# EAGLE library part ESP32-WROOM (library BSB-LAN)
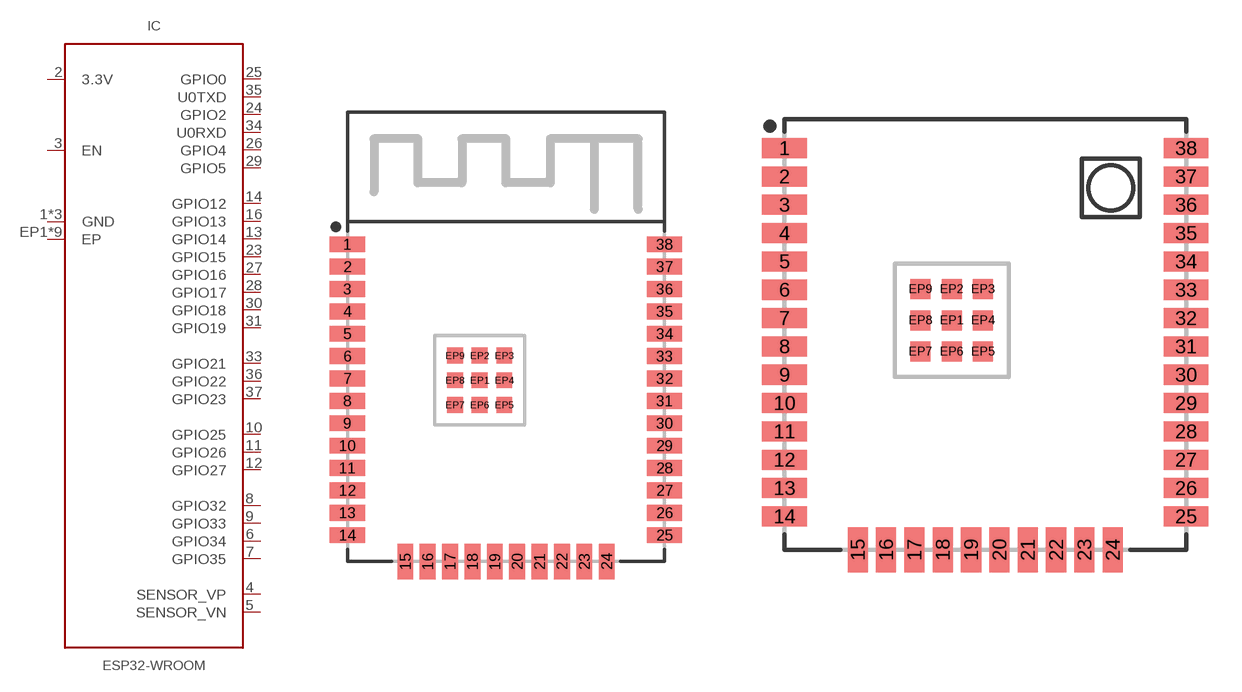
[diagram p1: symbol with the pads of ESP32-WROOM-32E; footprints ESP32-WROOM-32E, ESP32-WROOM-32UE]

Designator prefix IC

## ESP32-WROOM-32E (JLC_ROT: 270; JLC_Y: 7.72; LCSC_PART: C701341)  [ESP32-WROOM-32E]
1  GND  pwr
2  3.3V  pwr
3  EN  in
4  SENSOR_VP
5  SENSOR_VN
6  GPIO34
7  GPIO35
8  GPIO32
9  GPIO33
10  GPIO25
11  GPIO26
12  GPIO27
13  GPIO14
14  GPIO12
15  GND  pwr
16  GPIO13
23  GPIO15
24  GPIO2
25  GPIO0
26  GPIO4
27  GPIO16
28  GPIO17
29  GPIO5
30  GPIO18
31  GPIO19
33  GPIO21
34  U0RXD
35  U0TXD
36  GPIO22
37  GPIO23
38  GND  pwr
EP1  EP  pas
EP2  EP  pas
EP3  EP  pas
EP4  EP  pas
EP5  EP  pas
EP6  EP  pas
EP7  EP  pas
EP8  EP  pas
EP9  EP  pas

## ESP32-WROOM-32UE (JLC_Y: 7.72; LCSC_PART: C701344)  [ESP32-WROOM-32UE]
Pads as for ESP32-WROOM-32E

## Footprint ESP32-WROOM-32E (pad centres in mm)
smd 2 x 0.9: 1 -9,16.51; 2 -9,15.24; 3 -9,13.97; 4 -9,12.7; 5 -9,11.43; 6 -9,10.16; 7 -9,8.89; 8 -9,7.62; 9 -9,6.35; 10 -9,5.08; 11 -9,3.81; 12 -9,2.54; 13 -9,1.27; 14 -9,0; 25 9,0; 26 9,1.27; 27 9,2.54; 28 9,3.81; 29 9,5.08; 30 9,6.35; 31 9,7.62; 32 9,8.89; 33 9,10.16; 34 9,11.43; 35 9,12.7; 36 9,13.97; 37 9,15.24; 38 9,16.51
smd 0.9 x 2: 15 -5.715,-1.5; 16 -4.445,-1.5; 17 -3.175,-1.5; 18 -1.905,-1.5; 19 -0.635,-1.5; 20 0.635,-1.5; 21 1.905,-1.5; 22 3.175,-1.5; 23 4.445,-1.5; 24 5.715,-1.5
smd 0.9 x 0.9: EP1 -1.5,8.79; EP2 -1.5,10.19; EP3 -0.1,10.19; EP4 -0.1,8.79; EP5 -0.1,7.39; EP6 -1.5,7.39; EP7 -2.9,7.39; EP8 -2.9,8.79; EP9 -2.9,10.19

## Footprint ESP32-WROOM-32UE (pad centres in mm)
smd 2 x 0.9: 1 -9,16.51; 2 -9,15.24; 3 -9,13.97; 4 -9,12.7; 5 -9,11.43; 6 -9,10.16; 7 -9,8.89; 8 -9,7.62; 9 -9,6.35; 10 -9,5.08; 11 -9,3.81; 12 -9,2.54; 13 -9,1.27; 14 -9,0; 25 9,0; 26 9,1.27; 27 9,2.54; 28 9,3.81; 29 9,5.08; 30 9,6.35; 31 9,7.62; 32 9,8.89; 33 9,10.16; 34 9,11.43; 35 9,12.7; 36 9,13.97; 37 9,15.24; 38 9,16.51
smd 0.9 x 2: 15 -5.715,-1.5; 16 -4.445,-1.5; 17 -3.175,-1.5; 18 -1.905,-1.5; 19 -0.635,-1.5; 20 0.635,-1.5; 21 1.905,-1.5; 22 3.175,-1.5; 23 4.445,-1.5; 24 5.715,-1.5
smd 0.9 x 0.9: EP1 -1.5,8.79; EP2 -1.5,10.19; EP3 -0.1,10.19; EP4 -0.1,8.79; EP5 -0.1,7.39; EP6 -1.5,7.39; EP7 -2.9,7.39; EP8 -2.9,8.79; EP9 -2.9,10.19